# Altium schematic symbol library Test Fixture.Schlib: 1 symbol
Pins are listed as number, name and electrical type; pins without a type are passive.

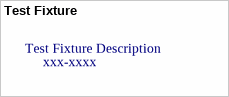
[diagram p0: symbol Test Fixture]

## Test Fixture
designator *, comment Test Fixture Description  CMW P/N: xxx-xxxx  (mechanical)